# EAGLE library part THS7374 (library snes_div)
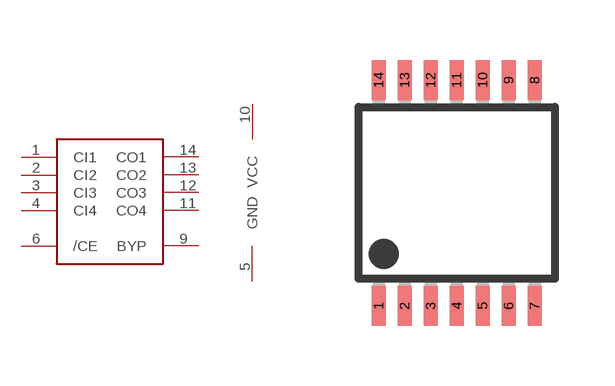
[diagram p13: symbol with the pads of THS7374; footprint THS7374]

Designator prefix -; gates G$1=THS7374 G$2=PWR

## THS7374  [THS7374]
1  G$1:CI1
2  G$1:CI2
3  G$1:CI3
4  G$1:CI4
5  G$2:GND
6  G$1:/CE
9  G$1:BYP
10  G$2:VCC
11  G$1:CO4
12  G$1:CO3
13  G$1:CO2
14  G$1:CO1

## Footprint THS7374 (pad centres in mm)
smd 0.35 x 1: 1 -1.95,-2.825; 2 -1.3,-2.825; 3 -0.65,-2.825; 4 0,-2.825; 5 0.65,-2.825; 6 1.3,-2.825; 7 1.95,-2.825; 8 1.95,2.825; 9 1.3,2.825; 10 0.65,2.825; 11 0,2.825; 12 -0.65,2.825; 13 -1.3,2.825; 14 -1.95,2.825